# EAGLE library part MD01B (library pololu)
Pololu MD01B Motor Driver tested: NO
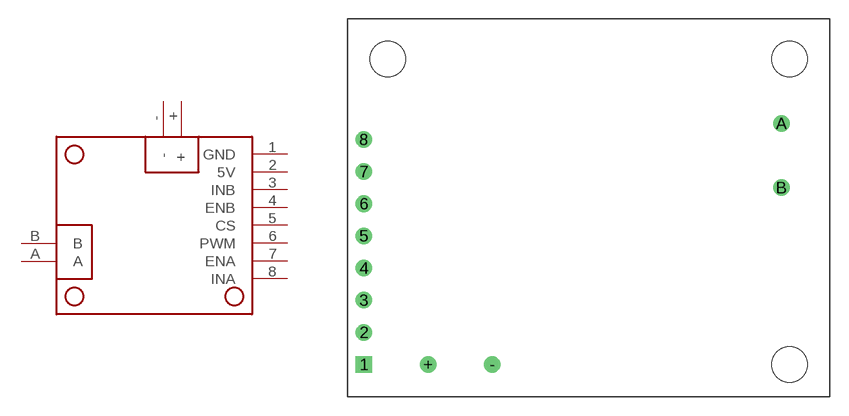
[diagram p1: symbol with the pads of MD01B; footprint MD01B]

Designator prefix -

## MD01B  [MD01B]
1  GND
2  5V
3  INB
4  ENB
5  CS
6  PWM
7  ENA
8  INA
+  +
-  -
A  A
B  B

## Footprint MD01B (pad centres in mm)
This layout is not verified.
drill 0.8 square: 1 1.27,2.54
drill 0.8: 2 1.27,5.08; 3 1.27,7.62; 4 1.27,10.16; 5 1.27,12.7; 6 1.27,15.24; 7 1.27,17.78; 8 1.27,20.32; + 6.35,2.54; - 11.43,2.54; A 34.29,21.59; B 34.29,16.51
hole 2.794 at 3.175,26.67
hole 2.794 at 34.925,26.67
hole 2.794 at 34.925,2.54